# Altium footprint library STM32pcblib.PcbLib: 11 footprints
Each footprint in its own frame and in the unit in brackets; x right, y up, seen from the top. Pads: shape width x height; smd on the part's side, far side on the other; paste and mask are expansions set on the pad; w line width, h text height; cw(c..) or ccw(c..) is an arc to the next point about the centre after c.
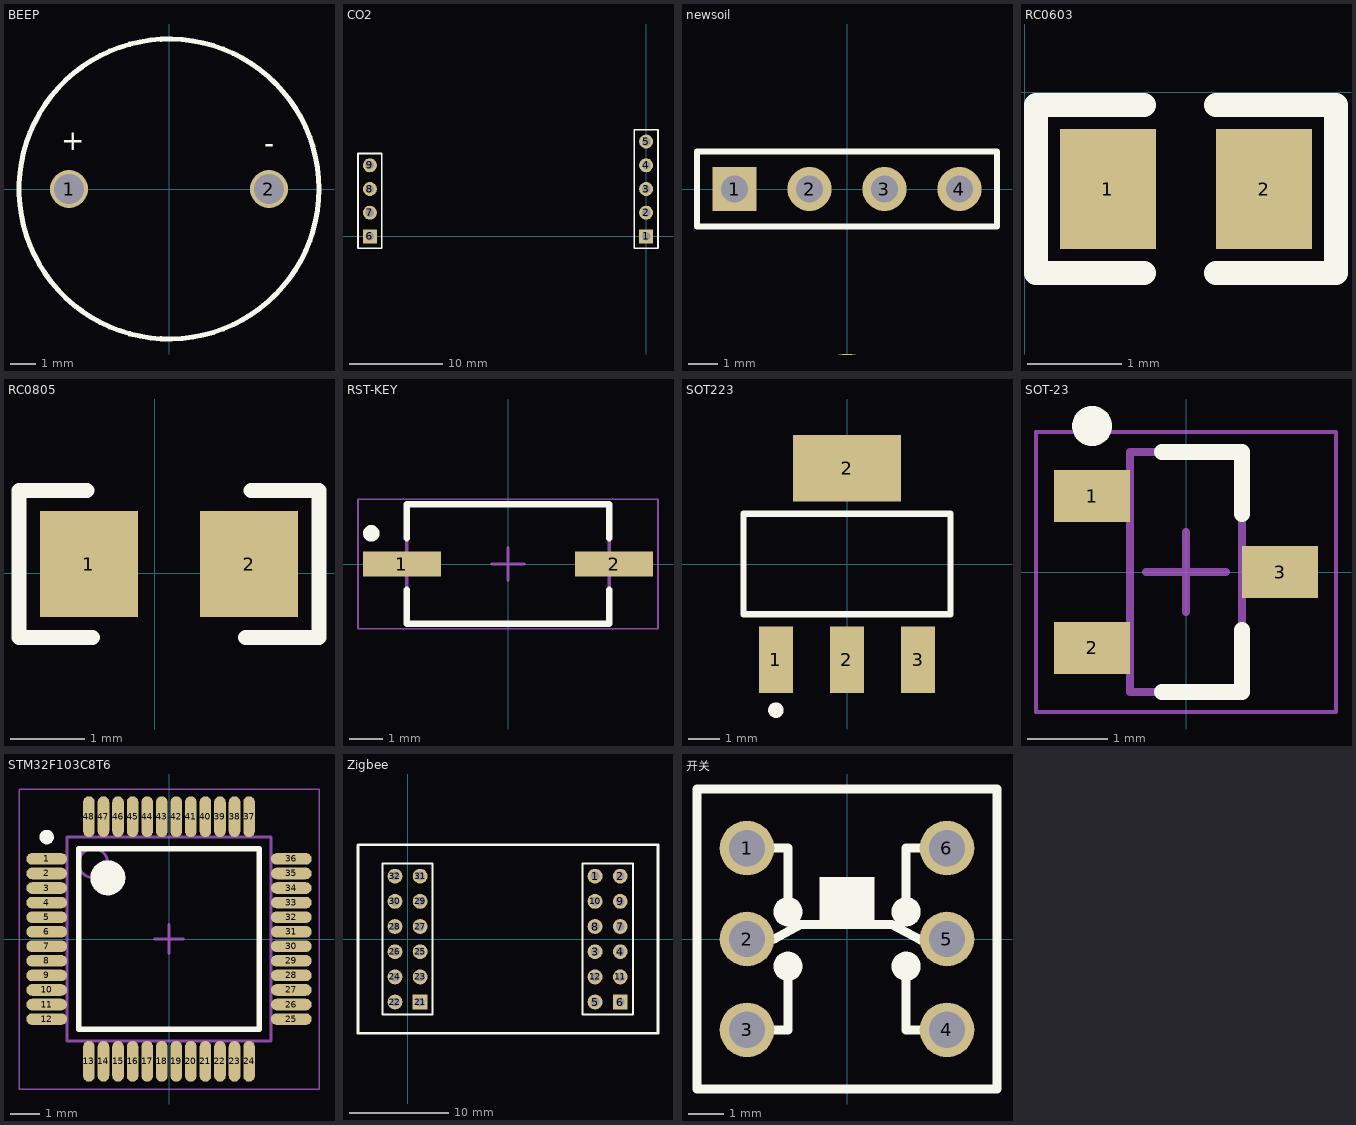
[diagram p0: the footprints below, top view; thin cyan lines are the x and y axes]

## BEEP [mm]
pads (2):
  round 1.524 hole 1.2: 1(-4,0) 2(4,0)
Top Overlay:
  circle w0.203: c0,0 r6
  text "-" at 3.81,1.143 h1.4
  text "+" at -4.318,1.27 h1.4

## CO2 [mm] "CO2"
pads (9):
  rect 1.5x1.5 hole 0.9: 1(0,0) 6(-29.591,0)
  round 1.5 hole 0.9: 2(0,2.54) 3(0,5.08) 4(0,7.62) 5(0,10.16) 7(-29.591,2.54) 8(-29.591,5.08) 9(-29.591,7.62)
Top Overlay:
  lines w0.2: -30.861,-1.27 -28.321,-1.27 -28.321,8.89 -30.861,8.89 -30.861,-1.27 ; -1.27,-1.27 -1.27,11.43 1.27,11.43 1.27,-1.27 -1.27,-1.27

## newsoil [mm]
pads (4):
  rect 1.5x1.5 hole 0.9: 1(-3.81,0)
  round 1.5 hole 0.9: 2(-1.27,0) 3(1.27,0) 4(3.81,0)
via 0,-7.23 diameter 3.3 hole 3.1
Top Overlay:
  lines w0.2: -5.08,-1.27 5.08,-1.27 5.08,1.27 -5.08,1.27 -5.08,-1.27

## RC0603 [mil]
pads (2):
  rect 40x50 smd: 1(34.59,-40.3) 2(99.59,-40.3)
Top Overlay:
  lines w10: 49.59,-75.3 4.59,-75.3 4.59,-5.3 49.59,-5.3 ; 79.59,-75.3 129.59,-75.3 129.59,-5.3 79.59,-5.3

## RC0805 [mil]
pads (2):
  rect 52x56 smd: 1(-35,5) 2(50,5)
Top Overlay:
  lines w8: -36,44 -72,44 -72,-34 -33,-34 ; 48,-34 87,-34 87,44 51,44

## RST-KEY [mm] "SODFL, 2-Leads, Body 3.50x8.00mm, IPC Medium Density"
height 2.6
pads (2):
  rect 2.35x0.75 smd: 1(-3.2,0) 2(3.2,0)
Top Overlay:
  circle w0.25: c-4.125,0.925 r0.125
  lines w0.2: -3.05,-0.775 -3.05,-1.8 3.05,-1.8 3.05,-0.775 ; -3.05,0.775 -3.05,1.8 3.05,1.8 3.05,0.775
Mechanical 13:
  lines w0.1: -3.05,-1.8 3.05,-1.8 3.05,1.8 -3.05,1.8 -3.05,-1.8
Mechanical 15:
  lines w0.05: -4.525,-1.95 4.525,-1.95 4.525,1.95 -4.525,1.95 -4.525,-1.95
  lines w0.1: -0.5,0 0.5,0 ; 0,-0.5 0,0.5
3D body: height 2.6, standoff 0, extent -3.05,-1.8 3.05,1.8

## SOT223 [mm]
pads (4):
  rect 1.1x2.15 smd: 1(-2.3,-3.1) 2(0,-3.1) 3(2.3,-3.1)
  rect 3.5x2.15 smd: 2(0,3.1)
Top Overlay:
  circle w0.25: c-2.3,-4.725 r0.125
  lines w0.2: -3.35,-1.625 3.35,-1.625 3.35,1.625 -3.35,1.625 -3.35,-1.625

## SOT-23 [mm] "s8050"
height 1.1
pads (3):
  rect 0.95x0.65 smd: 1(-1.175,0.95) 2(-1.175,-0.95) 3(1.175,0)
Top Overlay:
  circle w0.25: c-1.175,1.825 r0.125
  lines w0.2: -0.3,-1.5 0.7,-1.5 0.7,-0.725 ; -0.3,1.5 0.7,1.5 0.7,0.725
Mechanical 13:
  lines w0.1: -0.7,-1.5 -0.7,1.5 0.7,1.5 0.7,-1.5 -0.7,-1.5
Mechanical 15:
  lines w0.05: -1.875,-1.75 -1.875,1.75 1.875,1.75 1.875,-1.75 -1.875,-1.75
  lines w0.1: -0.5,0 0.5,0 ; 0,-0.5 0,0.5
3D body: height 1.1, standoff 0.05, extent -0.7,-1.5 0.7,1.5

## STM32F103C8T6 [mm] "TSQFP, 48-Leads, Body 7.00x7.00mm, Pitch 0.50mm, IPC Medium Density"
height 1.6
pads (48):
  oval 1.4x0.4 smd: 1(-4.2,2.75) 2(-4.2,2.25) 3(-4.2,1.75) 4(-4.2,1.25) 5(-4.2,0.75) 6(-4.2,0.25) 7(-4.2,-0.25) 8(-4.2,-0.75) 9(-4.2,-1.25) 10(-4.2,-1.75) 11(-4.2,-2.25) 12(-4.2,-2.75) 25(4.2,-2.75) 26(4.2,-2.25) 27(4.2,-1.75) 28(4.2,-1.25) 29(4.2,-0.75) 30(4.2,-0.25) 31(4.2,0.25) 32(4.2,0.75) 33(4.2,1.25) 34(4.2,1.75) 35(4.2,2.25) 36(4.2,2.75)
  oval 0.4x1.4 smd: 13(-2.75,-4.2) 14(-2.25,-4.2) 15(-1.75,-4.2) 16(-1.25,-4.2) 17(-0.75,-4.2) 18(-0.25,-4.2) 19(0.25,-4.2) 20(0.75,-4.2) 21(1.25,-4.2) 22(1.75,-4.2) 23(2.25,-4.2) 24(2.75,-4.2) 37(2.75,4.2) 38(2.25,4.2) 39(1.75,4.2) 40(1.25,4.2) 41(0.75,4.2) 42(0.25,4.2) 43(-0.25,4.2) 44(-0.75,4.2) 45(-1.25,4.2) 46(-1.75,4.2) 47(-2.25,4.2) 48(-2.75,4.2)
Top Overlay:
  circle w0.6: c-2.1,2.1 r0.3
  circle w0.25: c-4.2,3.5 r0.125
  lines w0.2: -3.1,-3.1 3.1,-3.1 3.1,3.1 -3.1,3.1 -3.1,-3.1
Mechanical 13:
  circle w0.1: c-2.6,2.6 r0.5
  lines w0.1: -3.5,-3.5 3.5,-3.5 3.5,3.5 -3.5,3.5 -3.5,-3.5
Mechanical 15:
  lines w0.05: -5.15,-5.15 5.15,-5.15 5.15,5.15 -5.15,5.15 -5.15,-5.15
  lines w0.1: -0.5,0 0.5,0 ; 0,-0.5 0,0.5
3D body: height 1.6, standoff 0.05, extent -3.5,-3.5 3.5,3.5

## Zigbee [mm]
pads (24):
  round 1.5 hole 0.9: 1(18.923,6.35) 2(21.463,6.35) 3(18.923,-1.27) 4(21.463,-1.27) 5(18.923,-6.35) 7(21.463,1.27) 8(18.923,1.27) 9(21.463,3.81) 10(18.923,3.81) 11(21.463,-3.81) 12(18.923,-3.81) 22(-1.27,-6.35) 23(1.27,-3.81) 24(-1.27,-3.81) 25(1.27,-1.27) 26(-1.27,-1.27) 27(1.27,1.27) 28(-1.27,1.27) 29(1.27,3.81) 30(-1.27,3.81) 31(1.27,6.35) 32(-1.27,6.35)
  rect 1.5x1.5 hole 0.9: 6(21.463,-6.35) 21(1.27,-6.35)
Top Overlay:
  lines w0.2: -2.54,-7.62 -2.54,7.62 2.54,7.62 2.54,-7.62 -2.54,-7.62 ; 17.653,-7.62 22.733,-7.62 22.733,7.62 17.653,7.62 17.653,-7.62
  lines w0.254: 25.248,-9.5 0,-9.5 -5,-9.5 -5,-0.127 -5,9.478 -4.978,9.5 0,9.5 24.409,9.5 25.248,9.5 25.273,9.525 25.273,0 25.273,-9.5

## 开关 [mil]
pads (6):
  round 60 hole 40: 1(-110,100) 2(-110,0) 3(-110,-100) 4(110,-100) 5(110,0) 6(110,100)
Top Overlay:
  circle w18: c-65,30 r7.07
  circle w18: c65,30 r7.07
  circle w18: c65,-30 r7.07
  circle w18: c-65,-30 r7.07
  rectangle: -30,16 30,68
  lines w10: -110,-100 -65,-100 -65,-40 ; -110,0 -80,0 -51,16 49,16 81,-1 109,-1 110,0 ; -110,100 -65,100 -65,30 ; 65,-40 65,-100 110,-100 ; 65,40 65,100 110,100 ; -165,-165 -165,165 165,165 165,-165 -165,-165